# EAGLE library part FE10-1 (library DSX_Library)
FEMALE HEADER
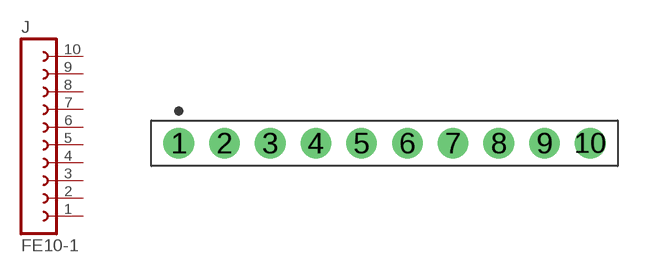
[diagram p2: symbol with the pads of HDRVR10W64P254_1X10_2590X254X850B; footprint HDRVR10W64P254_1X10_2590X254X850B]

Designator prefix J

## FE10-11X10-FEM-HEAD-3D  [HDRVR10W64P254_1X10_2590X254X850B]
1  1  pas
2  2  pas
3  3  pas
4  4  pas
5  5  pas
6  6  pas
7  7  pas
8  8  pas
9  9  pas
10  10  pas

## Footprint HDRVR10W64P254_1X10_2590X254X850B (pad centres in mm)
Single-row, 10-pin Receptacle Header (Female) Straight, 2.54 mm (0.10 in) col pitch, 8.50 mm insulator length, 25.90 X 2.54 X 8.50 mm body Single-row (1X10), 10-pin Receptacle Header (Female) Straight package with 2.54 mm (0.10 in) col pitch, 0.64 mm lead width, 3.20 mm tail length and 8.50 mm insulator length with overall size 25.90 X 2.54 X 8.50 mm, pin pattern - clockwise from top left
drill 1.105 pad 1.705: 1 0,0; 2 2.54,0; 3 5.08,0; 4 7.62,0; 5 10.16,0; 6 12.7,0; 7 15.24,0; 8 17.78,0; 9 20.32,0; 10 22.86,0